# Altium footprint library 2510_2P.PcbLib: 1 footprints
Each footprint in its own frame and in the unit in brackets; x right, y up, seen from the top. Pads: shape width x height; smd on the part's side, far side on the other; paste and mask are expansions set on the pad; w line width, h text height; cw(c..) or ccw(c..) is an arc to the next point about the centre after c.
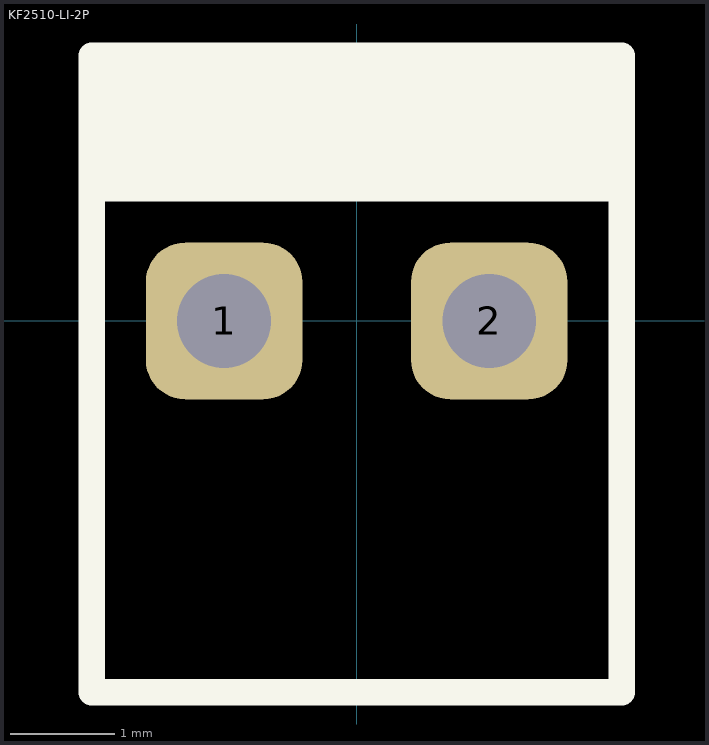
[diagram p0: the footprint, top view; thin cyan lines are the x and y axes]

## KF2510-LI-2P [mm] "接插件/2A"
height 11
pads (2):
  rrect50% 1.5x1.5 hole 0.9 mask+0: 1(-1.27,0) 2(1.27,0)
Top Overlay:
  rectangle: -2.591,1.27 2.489,2.54
  lines w0.254: -2.54,1.27 2.489,1.27 ; -2.54,-3.556 -2.54,2.54 2.54,2.54 2.54,-3.556 -2.54,-3.556
3D body "KF2510右.STEP": height 11.05, standoff -2.95, extent 0,-3.5 2.54,2.4
3D body "KF2510左.STEP": height 11.05, standoff -2.95, extent -2.54,-3.5 0,2.4